# EAGLE library part DIN_CONN (library 9_Dynalec)
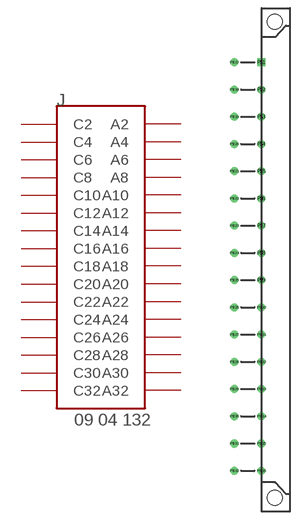
[diagram p4: symbol with the pads of DIN_32_CONN; footprint DIN_32_CONN]

Designator prefix J

## DIN_CONN  [DIN_32_CONN]
P$1  A2
P$2  A4
P$3  A6
P$4  A8
P$5  A10
P$6  A12
P$7  A14
P$8  A16
P$9  A18
P$10  A20
P$11  A22
P$12  A24
P$13  A26
P$14  A28
P$15  A30
P$16  A32
P$17  C2
P$18  C4
P$19  C6
P$20  C8
P$21  C10
P$22  C12
P$23  C14
P$24  C16
P$25  C18
P$26  C20
P$27  C22
P$28  C24
P$29  C26
P$30  C28
P$31  C30
P$32  C32

## Footprint DIN_32_CONN (pad centres in mm)
drill 1 square: P$1 0,36.83
drill 1: P$2 0,31.75; P$3 0,26.67; P$4 0,21.59; P$5 0,16.51; P$6 0,11.43; P$7 0,6.35; P$8 0,1.27; P$9 0,-3.81; P$10 0,-8.89; P$11 0,-13.97; P$12 0,-19.05; P$13 0,-24.13; P$14 0,-29.21; P$15 0,-34.29; P$16 0,-39.37; P$17 -5.08,36.83; P$18 -5.08,31.75; P$19 -5.08,26.67; P$20 -5.08,21.59; P$21 -5.08,16.51; P$22 -5.08,11.43; P$23 -5.08,6.35; P$24 -5.08,1.27; P$25 -5.08,-3.81; P$26 -5.08,-8.89; P$27 -5.08,-13.97; P$28 -5.08,-19.05; P$29 -5.08,-24.13; P$30 -5.08,-29.21; P$31 -5.08,-34.29; P$32 -5.08,-39.37
hole 2.8 at 2.54,44.45
hole 2.8 at 2.54,-44.45